# Altium footprint library PCB_s01.PcbLib: 21 footprints (part 2 of 2)
Each footprint in its own frame and in the unit in brackets; x right, y up, seen from the top. Pads: shape width x height; smd on the part's side, far side on the other; paste and mask are expansions set on the pad; w line width, h text height; cw(c..) or ccw(c..) is an arc to the next point about the centre after c.
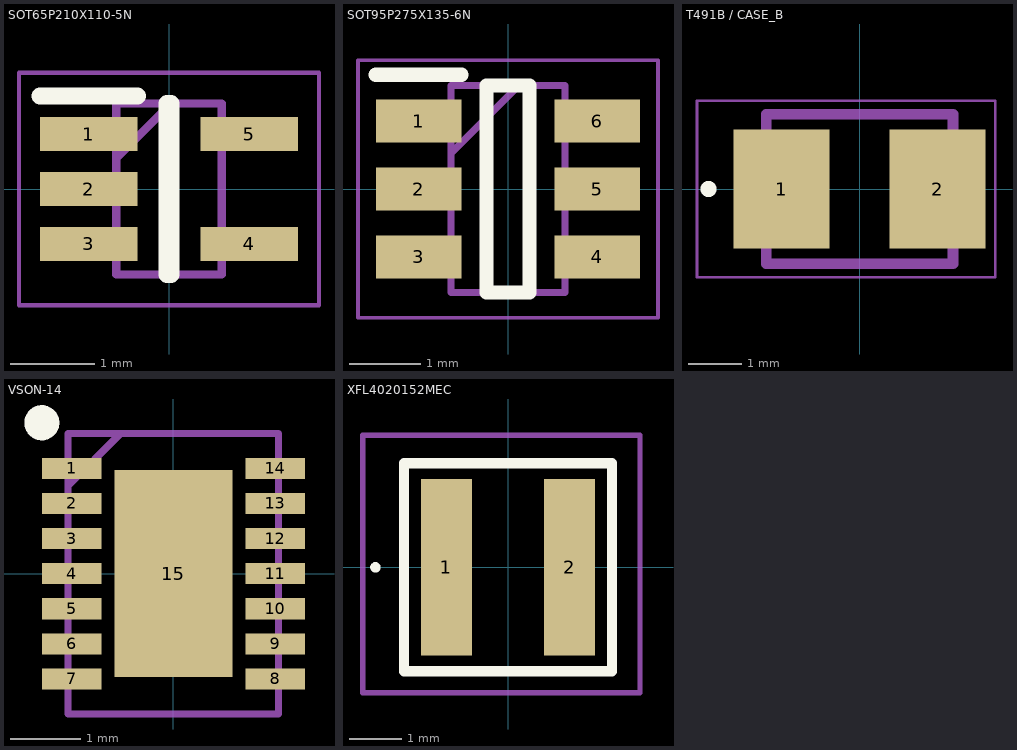
[diagram p1: the footprints below, top view; thin cyan lines are the x and y axes]

## SOT65P210X110-5N [mm]
pads (5):
  rect 1.15x0.4 smd: 1(-0.95,0.65) 2(-0.95,0) 3(-0.95,-0.65) 4(0.95,-0.65) 5(0.95,0.65)
Top Overlay:
  lines w0.2: -1.525,1.1 -0.375,1.1 ; -0.025,-1.012 -0.025,1.012 0.025,1.012 0.025,-1.012 -0.025,-1.012
Top Courtyard:
  lines w0.05: -1.775,-1.375 1.775,-1.375 1.775,1.375 -1.775,1.375 -1.775,-1.375
  lines w0.1: -0.625,0.362 0.025,1.012 ; -0.625,-1.012 -0.625,1.012 0.625,1.012 0.625,-1.012 -0.625,-1.012
3D body "MIC841HYC5-TR.stp": height 1.1, standoff 0, extent -1.05,-1.012 1.05,1.012

## SOT95P275X135-6N [mm]
pads (6):
  rect 1.2x0.6 smd: 1(-1.25,0.95) 2(-1.25,0) 3(-1.25,-0.95) 4(1.25,-0.95) 5(1.25,0) 6(1.25,0.95)
Top Overlay:
  lines w0.2: -1.85,1.6 -0.65,1.6 ; -0.3,-1.45 0.3,-1.45 0.3,1.45 -0.3,1.45 -0.3,-1.45
Mechanical 13:
  lines w0.1: -0.8,0.5 0.15,1.45 ; -0.8,-1.45 0.8,-1.45 0.8,1.45 -0.8,1.45 -0.8,-1.45
Top Courtyard:
  lines w0.05: -2.1,-1.8 2.1,-1.8 2.1,1.8 -2.1,1.8 -2.1,-1.8
3D body "S-8261AAXMD-G2XT2U.stp": height 1.35, standoff 0, extent -1.375,-1.45 1.375,1.45

## T491B / CASE_B [mm]
pads (2):
  rect 1.8x2.23 smd: 1(-1.46,0) 2(1.46,0)
Top Overlay:
  circle w0.2: c-2.831,0 r0.05
Mechanical 13:
  lines w0.2: -1.75,-1.4 -1.75,1.4 1.75,1.4 1.75,-1.4 -1.75,-1.4
Top Courtyard:
  lines w0.05: -3.048,-1.651 -3.048,1.651 2.54,1.651 2.54,-1.651 -3.048,-1.651
3D body "T491B226K006AT.stp": height 2.1, standoff 0, extent -1.85,-1.5 1.85,1.5

## VSON-14 [mm]
pads (15):
  rect 0.85x0.3 smd: 1(-1.45,1.5) 2(-1.45,1) 3(-1.45,0.5) 4(-1.45,0) 5(-1.45,-0.5) 6(-1.45,-1) 7(-1.45,-1.5) 8(1.45,-1.5) 9(1.45,-1) 10(1.45,-0.5) 11(1.45,0) 12(1.45,0.5) 13(1.45,1) 14(1.45,1.5)
  rect 1.68x2.95 smd: 15(0,0)
Top Overlay:
  circle w0.25: c-1.875,2.15 r0.125
Top Courtyard:
  lines w0.1: -1.5,1.25 -0.75,2 ; -1.5,-2 -1.5,2 1.5,2 1.5,-2 -1.5,-2
3D body "User Library-VSON-14-1.step": height 1, standoff -0.05, extent -1.62,-2.096 1.59,2.114

## XFL4020152MEC [mm]
pads (2):
  rect 0.98x3.4 smd: 1(-1.185,0) 2(1.185,0)
Top Overlay:
  lines w0.1: -2.6,0 ccw(c-2.55,0) -2.5,0 ccw(c-2.55,0) -2.6,0
  lines w0.2: -2,-2 2,-2 2,2 -2,2 -2,-2
Top Courtyard:
  lines w0.1: -2.794,-2.413 2.54,-2.413 2.54,2.54 -2.794,2.54 -2.794,-2.413 ; -2,-2 2,-2 2,2 -2,2 -2,-2
3D body "Coilcraft-XFL4020.step": height 2, standoff -0.1, extent -2.15,-2.15 2.15,2.15